# EAGLE library part HC-06 (library hft)
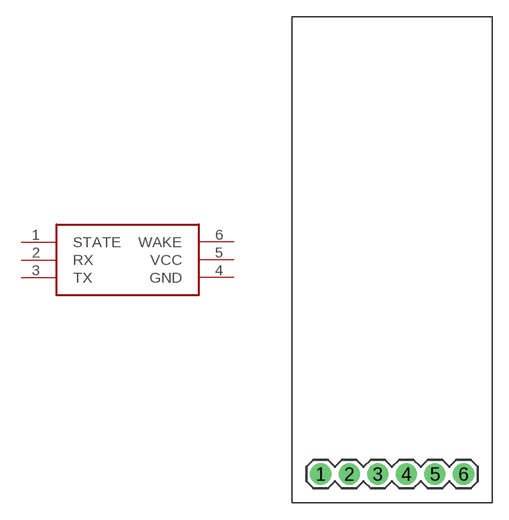
[diagram p1: symbol with the pads of HC-06_BREAKOUT; footprint HC-06_BREAKOUT]

Designator prefix -

## HC-06  [HC-06_BREAKOUT]
1  STATE
2  RX
3  TX
4  GND
5  VCC
6  WAKE

## Footprint HC-06_BREAKOUT (pad centres in mm)
drill 1.016 pad 1.88: 1 -6.35,0; 2 -3.81,0; 3 -1.27,0; 4 1.27,0; 5 3.81,0; 6 6.35,0